# Altium footprint library SamacSys.PcbLib: 2 footprints
Each footprint in its own frame and in the unit in brackets; x right, y up, seen from the top. Pads: shape width x height; smd on the part's side, far side on the other; paste and mask are expansions set on the pad; w line width, h text height; cw(c..) or ccw(c..) is an arc to the next point about the centre after c.
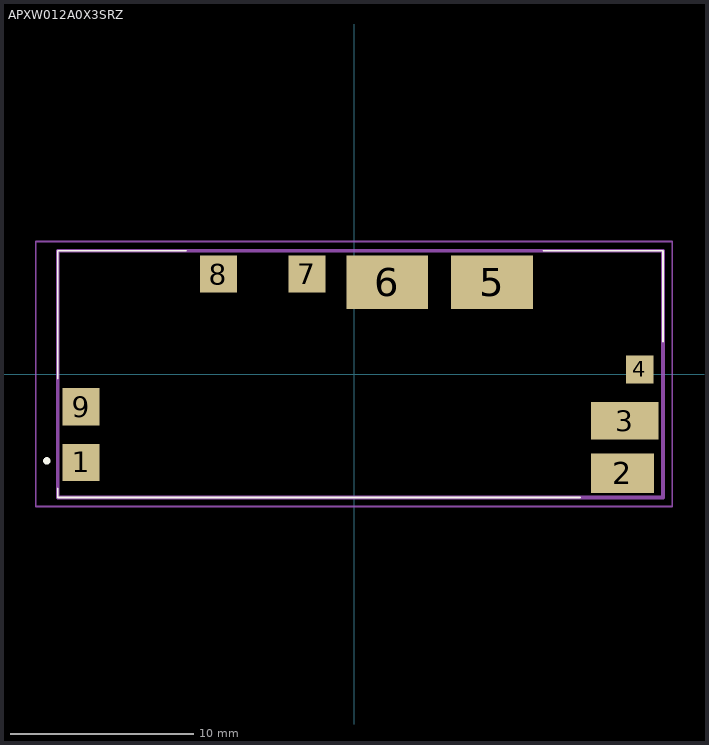
[diagram p0: the footprints below, top view; thin cyan lines are the x and y axes]

## APXW012A0X3SRZ [mm]
pads (9):
  rect 2.03x2.03 smd: 1(-14.89,-4.82) 7(-2.57,5.46) 8(-7.4,5.46) 9(-14.89,-1.78)
  rect 3.43x2.16 smd: 2(14.64,-5.4)
  rect 3.68x2.03 smd: 3(14.78,-2.54)
  rect 1.52x1.52 smd: 4(15.59,0.26)
  rect 4.45x2.92 smd: 5(7.53,5.02) 6(1.81,5.02)
Top Overlay:
  lines w0.1: -16.16,-6.23 -16.16,-6.73 12.34,-6.73 ; -16.16,-0.23 -16.16,6.73 -9.16,6.73 ; 10.34,6.73 16.86,6.73 16.86,1.77
  lines w0.2: -16.76,-4.83 ccw(c-16.76,-4.73) -16.76,-4.63 ccw(c-16.76,-4.73) -16.76,-4.83
Mechanical 13:
  lines w0.2: -16.16,-6.73 -16.16,6.73 16.86,6.73 16.86,-6.73 -16.16,-6.73
Mechanical 15:
  lines w0.1: -17.36,-7.23 -17.36,7.23 17.36,7.23 17.36,-7.23 -17.36,-7.23
3D body "APXW012A0X3-SRZ.stp": height 10.1, standoff 0, extent -16.16,-6.73 16.86,6.73

## PCBComponent_1 [mm]